# Altium schematic symbol library TESEO-LIV3F.SchLib: 1 symbol
Pins are listed as number, name and electrical type; pins without a type are passive.

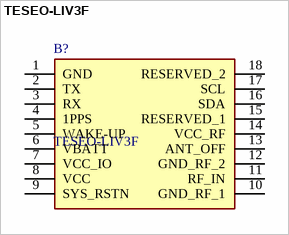
[diagram p0: symbol TESEO-LIV3F]

## TESEO-LIV3F
designator B?
GPS Modules Tiny GNSS module; Manufacturer_Name: STMicroelectronics; Geometry.Height: 2.3mm; Farnell Part Number: *; Farnell Price/Stock: *; Manufacturer_Part_Number: TESEO-LIV3F; Datasheet Link: https://www.st.com/resource/en/datasheet/teseo-liv3f.pdf
footprint SON110P970X1010X230-18N
pins: 1 GND, 2 TX, 3 RX, 4 1PPS, 5 WAKE-UP, 6 VBATT, 7 VCC_IO, 8 VCC, 9 SYS_RSTN, 10 GND_RF_1, 11 RF_IN, 12 GND_RF_2, 13 ANT_OFF, 14 VCC_RF, 15 RESERVED_1, 16 SDA, 17 SCL, 18 RESERVED_2